# Altium integrated library NXP_60_26022015.IntLib: 1306 symbols (part 23 of 28)
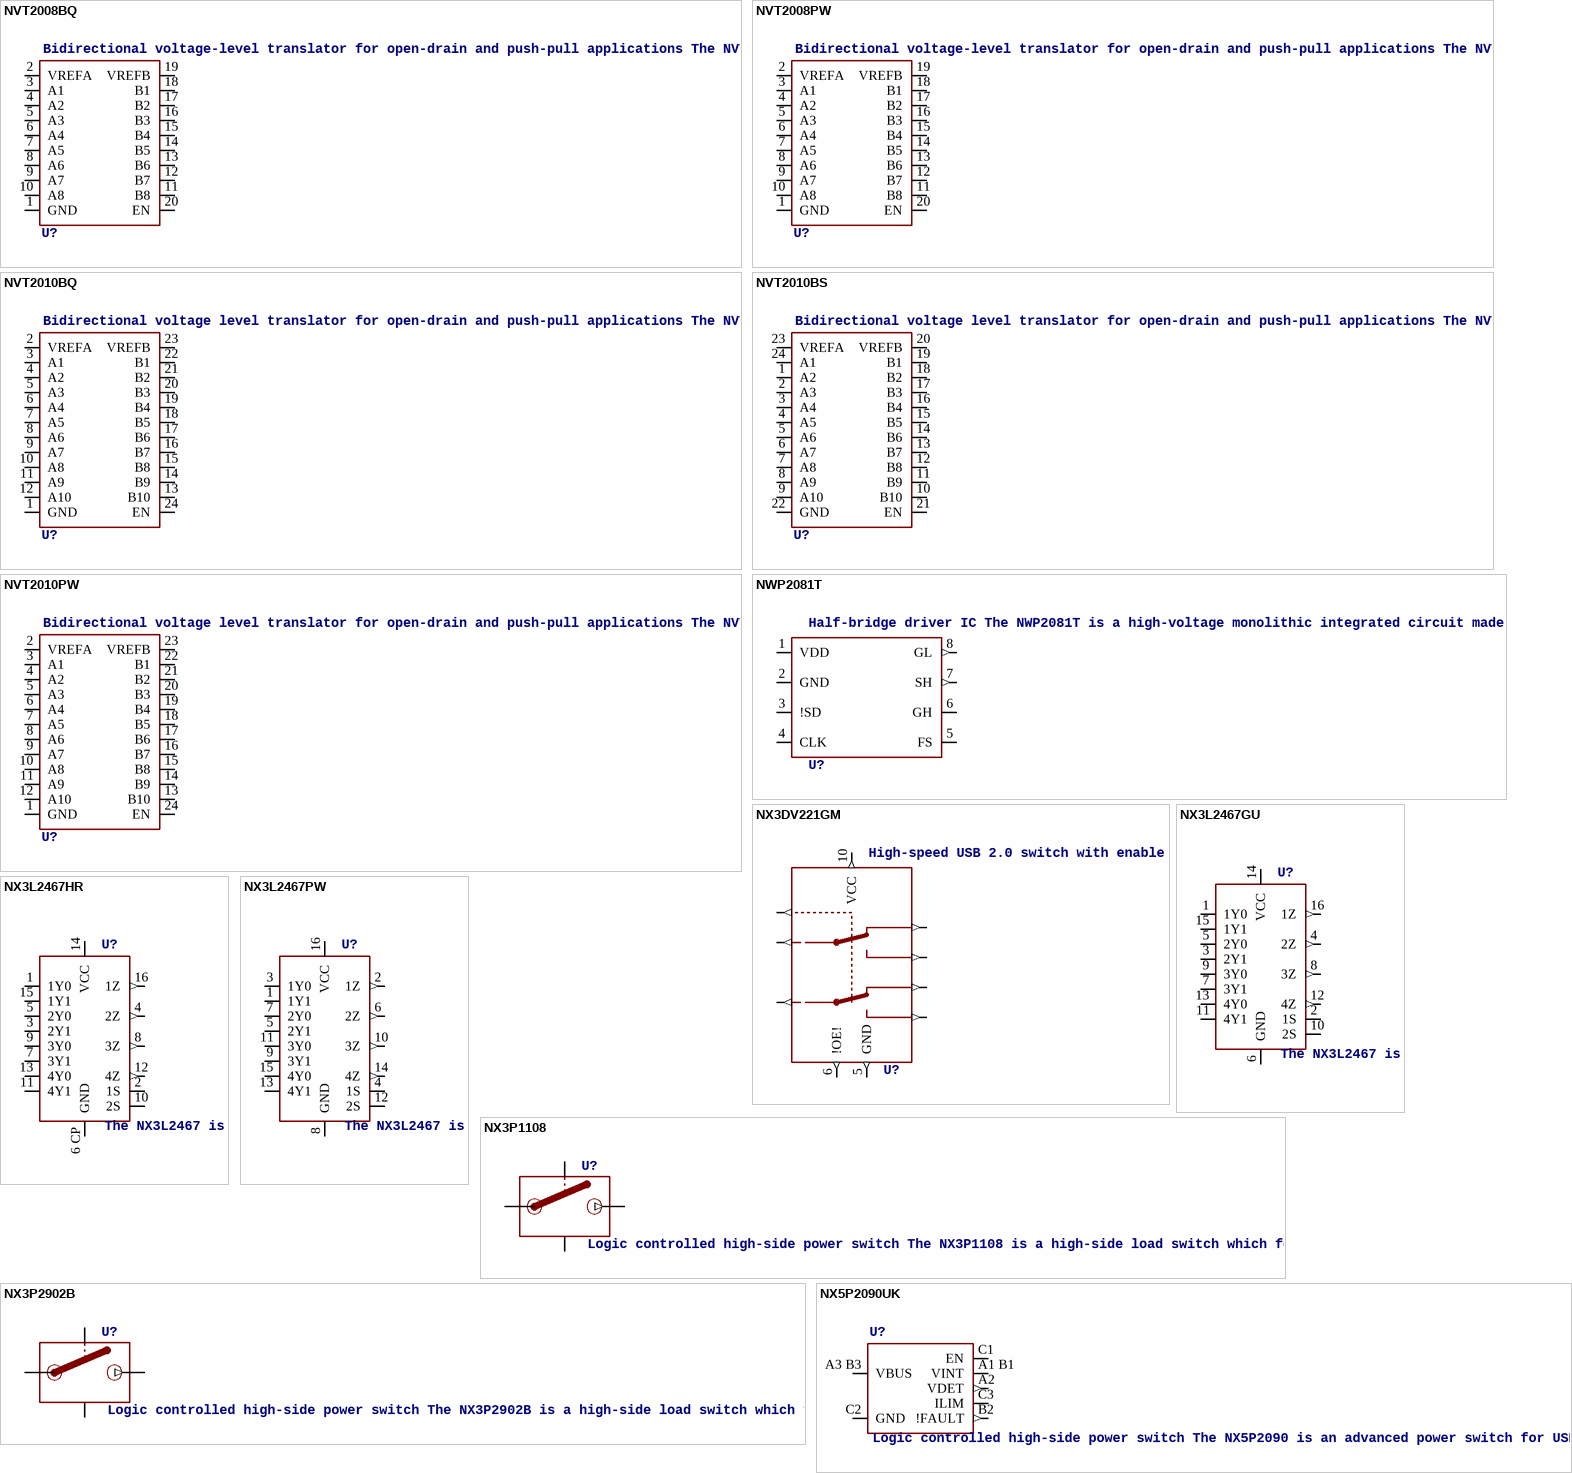
[diagram p207: symbols NVT2008BQ to NX5P2090UK]

## NVT2008PW
designator U?, comment Bidirectional voltage-level translator for open-drain and push-pull applications The NVT2008/NVT2010 are bidirectional voltage level translators operational from 1.0 V to 3.6 V (Vref(A)) and 1.8 V to 5.5 V (Vref(B)), which allow bidirectional voltage translations between 1.0 V and 5 V without the need for a direction pin in open-drain or push-pull applications. Bit widths of 8-bit to 10-bit are offered for level translation application with transmission speeds up to 33 MHz for an open-drain system with a 50 pF capacitance and a pull-up of 197 . When the An or Bn port is LOW, the clamp is in the ON-state and a low resistance connection exists between the An and Bn ports. The low ON-state resistance (Ron) of the switch allows connections to be made with minimal propagation delay. Assuming the higher voltage is on the Bn port when the Bn port is HIGH, the voltage on the An port is limited to the voltage set by VREFA. When the An port is HIGH, the Bn port is pulled to the drain pull-up supply voltage (Vpu(D)) by the pull-up resistors. This functionality allows a seamless translation between higher and lower voltages selected by the user without the need for directional control. When EN is HIGH, the translator switch is on, and the An I/O are connected to the Bn I/O, respectively, allowing bidirectional data flow between ports. When EN is LOW, the translator switch is off, and a high-impedance state exists between ports. The EN input circuit is designed to be supplied by Vref(B). To ensure the high-impedance state during power-up or power-down, EN must be LOW. All channels have the same electrical characteristics and there is minimal deviation from one output to another in voltage or propagation delay. This is a benefit over discrete transistor voltage translation solutions, since the fabrication of the switch is symmetrical. The translator provides excellent ESD protection to lower voltage devices, and at the same time protects less ESD-resistant devices.    AAL Eindhoven MK
footprint SOT360
pins: 1 GND (power), 2 VREFA (power), 3 A1, 4 A2, 5 A3, 6 A4, 7 A5, 8 A6, 9 A7, 10 A8, 11 B8, 12 B7, 13 B6, 14 B5, 15 B4, 16 B3, 17 B2, 18 B1, 19 VREFB (power), 20 EN

## NVT2010BQ
designator U?, comment Bidirectional voltage level translator for open-drain and push-pull applications The NVT2001/02 are bidirectional voltage level translators operational from 1.0 V to 3.6 V (Vref(A)) and 1.8 V to 5.5 V (Vref(B)), which allow bidirectional voltage translations between 1.0 V and 5 V without the need for a direction pin in open-drain or push-pull applications. Bit widths ranging from 1-bit or 2-bit are offered for level translation application with transmission speeds up to 33 MHz for an open-drain system with a 50 pF capacitance and a pull-up of 197 . When the An or Bn port is LOW, the clamp is in the ON-state and a low resistance connection exists between the An and Bn ports. The low ON-state resistance (Ron) of the switch allows connections to be made with minimal propagation delay. Assuming the higher voltage is on the Bn port when the Bn port is HIGH, the voltage on the An port is limited to the voltage set by VREFA. When the An port is HIGH, the Bn port is pulled to the drain pull-up supply voltage (Vpu(D)) by the pull-up resistors. This functionality allows a seamless translation between higher and lower voltages selected by the user without the need for directional control. When EN is HIGH, the translator switch is on, and the An I/O are connected to the Bn I/O, respectively, allowing bidirectional data flow between ports. When EN is LOW, the translator switch is off, and a high-impedance state exists between ports. The EN input circuit is designed to be supplied by Vref(B). To ensure the high-impedance state during power-up or power-down, EN must be LOW. All channels have the same electrical characteristics and there is minimal deviation from one output to another in voltage or propagation delay. This is a benefit over discrete transistor voltage translation solutions, since the fabrication of the switch is symmetrical. The translator provides excellent ESD protection to lower voltage devices, and at the same time protects less ESD-resistant devices    AAL Eindhoven MK
footprint SOT815-1
pins: 1 GND (power), 2 VREFA (power), 3 A1, 4 A2, 5 A3, 6 A4, 7 A5, 8 A6, 9 A7, 10 A8, 11 A9, 12 A10, 13 B10, 14 B9, 15 B8, 16 B7, 17 B6, 18 B5, 19 B4, 20 B3, 21 B2, 22 B1, 23 VREFB (power), 24 EN

## NVT2010BS
designator U?, comment Bidirectional voltage level translator for open-drain and push-pull applications The NVT2001/02 are bidirectional voltage level translators operational from 1.0 V to 3.6 V (Vref(A)) and 1.8 V to 5.5 V (Vref(B)), which allow bidirectional voltage translations between 1.0 V and 5 V without the need for a direction pin in open-drain or push-pull applications. Bit widths ranging from 1-bit or 2-bit are offered for level translation application with transmission speeds up to 33 MHz for an open-drain system with a 50 pF capacitance and a pull-up of 197 . When the An or Bn port is LOW, the clamp is in the ON-state and a low resistance connection exists between the An and Bn ports. The low ON-state resistance (Ron) of the switch allows connections to be made with minimal propagation delay. Assuming the higher voltage is on the Bn port when the Bn port is HIGH, the voltage on the An port is limited to the voltage set by VREFA. When the An port is HIGH, the Bn port is pulled to the drain pull-up supply voltage (Vpu(D)) by the pull-up resistors. This functionality allows a seamless translation between higher and lower voltages selected by the user without the need for directional control. When EN is HIGH, the translator switch is on, and the An I/O are connected to the Bn I/O, respectively, allowing bidirectional data flow between ports. When EN is LOW, the translator switch is off, and a high-impedance state exists between ports. The EN input circuit is designed to be supplied by Vref(B). To ensure the high-impedance state during power-up or power-down, EN must be LOW. All channels have the same electrical characteristics and there is minimal deviation from one output to another in voltage or propagation delay. This is a benefit over discrete transistor voltage translation solutions, since the fabrication of the switch is symmetrical. The translator provides excellent ESD protection to lower voltage devices, and at the same time protects less ESD-resistant devices    AAL Eindhoven MK
footprint SOT616-1
pins: 1 A2, 2 A3, 3 A4, 4 A5, 5 A6, 6 A7, 7 A8, 8 A9, 9 A10, 10 B10, 11 B9, 12 B8, 13 B7, 14 B6, 15 B5, 16 B4, 17 B3, 18 B2, 19 B1, 20 VREFB (power), 21 EN, 22 GND (power), 23 VREFA (power), 24 A1

## NVT2010PW
designator U?, comment Bidirectional voltage level translator for open-drain and push-pull applications The NVT2001/02 are bidirectional voltage level translators operational from 1.0 V to 3.6 V (Vref(A)) and 1.8 V to 5.5 V (Vref(B)), which allow bidirectional voltage translations between 1.0 V and 5 V without the need for a direction pin in open-drain or push-pull applications. Bit widths ranging from 1-bit or 2-bit are offered for level translation application with transmission speeds up to 33 MHz for an open-drain system with a 50 pF capacitance and a pull-up of 197 . When the An or Bn port is LOW, the clamp is in the ON-state and a low resistance connection exists between the An and Bn ports. The low ON-state resistance (Ron) of the switch allows connections to be made with minimal propagation delay. Assuming the higher voltage is on the Bn port when the Bn port is HIGH, the voltage on the An port is limited to the voltage set by VREFA. When the An port is HIGH, the Bn port is pulled to the drain pull-up supply voltage (Vpu(D)) by the pull-up resistors. This functionality allows a seamless translation between higher and lower voltages selected by the user without the need for directional control. When EN is HIGH, the translator switch is on, and the An I/O are connected to the Bn I/O, respectively, allowing bidirectional data flow between ports. When EN is LOW, the translator switch is off, and a high-impedance state exists between ports. The EN input circuit is designed to be supplied by Vref(B). To ensure the high-impedance state during power-up or power-down, EN must be LOW. All channels have the same electrical characteristics and there is minimal deviation from one output to another in voltage or propagation delay. This is a benefit over discrete transistor voltage translation solutions, since the fabrication of the switch is symmetrical. The translator provides excellent ESD protection to lower voltage devices, and at the same time protects less ESD-resistant devices    AAL Eindhoven MK
footprint SOT355-1
pins: 1 GND (power), 2 VREFA (power), 3 A1, 4 A2, 5 A3, 6 A4, 7 A5, 8 A6, 9 A7, 10 A8, 11 A9, 12 A10, 13 B10, 14 B9, 15 B8, 16 B7, 17 B6, 18 B5, 19 B4, 20 B3, 21 B2, 22 B1, 23 VREFB (power), 24 EN

## NWP2081T
designator U?, comment Half-bridge driver IC The NWP2081T is a high-voltage monolithic integrated circuit made using the latch-up free Silicon-On-Insulator (SOI) process. The circuit is designed for driving MOSFETs in a half-bridge configuration.    AAL Eindhoven MK
footprint SOT96-1
pins: 1 VDD (power), 2 GND (power), 3 !SD, 4 CLK, 5 FS, 6 GH, 7 SH (out), 8 GL (out)

## NX3DV221GM
designator U?, comment High-speed USB 2.0 switch with enable
footprint SOT1049
pins: 1 1D+ (out), 2 1D- (out), 3 2D+ (out), 4 2D- (out), 5 GND (out), 6 !OE! (out), 7 D- (out), 8 D+ (out), 9 S (out), 10 VCC (out)

## NX3L2467GU
designator U?, comment The NX3L2467 is a dual low-ohmic double-pole double-throw analog switch suitable for use as an analog or digital multiplexer/demultiplexer. It consists of four switches, each with two independent input/outputs (nY0 and nY1) and a common input/output (nZ). The two digital inputs (1S and 2S) are used to select the switch position. 1S is used in selecting the independent inputs/outputs switched to 1Z and 2Z, and 2S is used in selecting the independent inputs/outputs switched to 3Z and 4Z.  Schmitt trigger action at the select input (nS) makes the circuit tolerant to slower input rise and fall times across the entire VCC range from 1.4 V to 4.3 V.   AAL Eindhoven MK
footprint SOT1161-1
pins: 1 1Y0, 2 1S, 3 2Y1, 4 2Z (out), 5 2Y0, 6 GND (power), 7 3Y1, 8 3Z (out), 9 3Y0, 10 2S, 11 4Y1, 12 4Z (out), 13 4Y0, 14 VCC (power), 15 1Y1, 16 1Z (out)

## NX3L2467HR
designator U?, comment The NX3L2467 is a dual low-ohmic double-pole double-throw analog switch suitable for use as an analog or digital multiplexer/demultiplexer. It consists of four switches, each with two independent input/outputs (nY0 and nY1) and a common input/output (nZ). The two digital inputs (1S and 2S) are used to select the switch position. 1S is used in selecting the independent inputs/outputs switched to 1Z and 2Z, and 2S is used in selecting the independent inputs/outputs switched to 3Z and 4Z.  Schmitt trigger action at the select input (nS) makes the circuit tolerant to slower input rise and fall times across the entire VCC range from 1.4 V to 4.3 V.   AAL Eindhoven MK
footprint SOT1039-2
pins: 1 1Y0, 2 1S, 3 2Y1, 4 2Z (out), 5 2Y0, 6 CP GND (power), 7 3Y1, 8 3Z (out), 9 3Y0, 10 2S, 11 4Y1, 12 4Z (out), 13 4Y0, 14 VCC (power), 15 1Y1, 16 1Z (out)

## NX3L2467PW
designator U?, comment The NX3L2467 is a dual low-ohmic double-pole double-throw analog switch suitable for use as an analog or digital multiplexer/demultiplexer. It consists of four switches, each with two independent input/outputs (nY0 and nY1) and a common input/output (nZ). The two digital inputs (1S and 2S) are used to select the switch position. 1S is used in selecting the independent inputs/outputs switched to 1Z and 2Z, and 2S is used in selecting the independent inputs/outputs switched to 3Z and 4Z.  Schmitt trigger action at the select input (nS) makes the circuit tolerant to slower input rise and fall times across the entire VCC range from 1.4 V to 4.3 V.   AAL Eindhoven MK
footprint SOT403-1
pins: 1 1Y1, 2 1Z (out), 3 1Y0, 4 1S, 5 2Y1, 6 2Z (out), 7 2Y0, 8 GND (power), 9 3Y1, 10 3Z (out), 11 3Y0, 12 2S, 13 4Y1, 14 4Z (out), 15 4Y0, 16 VCC (power)

## NX3P1108
designator U?, comment Logic controlled high-side power switch The NX3P1108 is a high-side load switch which features a low ON resistance P-channel MOSFET that supports more than 1.5 A of continuous current. It has an integrated output discharge resistor to discharge the output capacitance when disabled. Designed for operation from 0.9 V to 3.6 V, it is used in power domain isolation applications to reduce power dissipation and extend battery life. The enable logic includes integrated logic level translation making the device compatible with lower voltage processors and controllers. The NX3P1108 is ideal for portable, battery operated applications due to low ground current and ultra-low OFF-state current.    AAL Eindhoven MK
footprint WLCSP4
pins: A1 VOUT (out), A2 VIN, B1 GND (power), B2 EN

## NX3P2902B
designator U?, comment Logic controlled high-side power switch The NX3P2902B is a high-side load switch which features a low ON resistance P-channel MOSFET. The MOSFET supports more than 500 mA of continuous current and an integrated output discharge resistor to discharge the output capacitance when disabled. Designed for operation from 1.1 V to 3.6 V, it is used in power domain isolation applications to reduce power dissipation and extend battery life. The enable logic includes integrated logic level translation making the device compatible with lower voltage processors and controllers. The NX3P2902B is ideal for portable, battery operated applications due to low ground current and OFF-state current.    AAL Eindhoven MK
footprint WLCSP4
pins: A1 VOUT (out), A2 VIN, B1 GND (power), B2 EN

## NX5P2090UK
designator U?, comment Logic controlled high-side power switch The NX5P2090 is an advanced power switch for USB OTG applications. It includes under-voltage and over-voltage lockout, over-current, over-temperature, reverse bias and in-rush current protection circuits. These are designed to automatically isolate a VBUS OTG voltage source from a VBUS interface pin when a fault occurs. The device features two power switch terminals, one input (VINT) and one output (VBUS); a current limit input (ILIM) for defining the over-current and in-rush current limit; a voltage detect output (VDET) to monitor the voltage level on VBUS; an open-drain fault output (FAULT) to indicate when a fault condition has occurred and an enable input (EN) to control the state of the switch. When EN is set LOW the device enters a low-power mode, disabling all protection circuits accept the under-voltage lockout. The low-power mode can be entered at anytime unless the over temperature protection circuit has been triggered. Designed for operation from 3 V to 5.5 V, it is used in power domain isolation applications to protect from out of range operation. The enable input includes integrated logic level translation making the device compatible with lower voltage processors and controllers    AAL Eindhoven MK
footprint WLCSP9
pins: A1 B1 VINT (power), A2 VDET (out), A3 B3 VBUS (power), B2 !FAULT (out), C1 EN, C2 GND (power), C3 ILIM

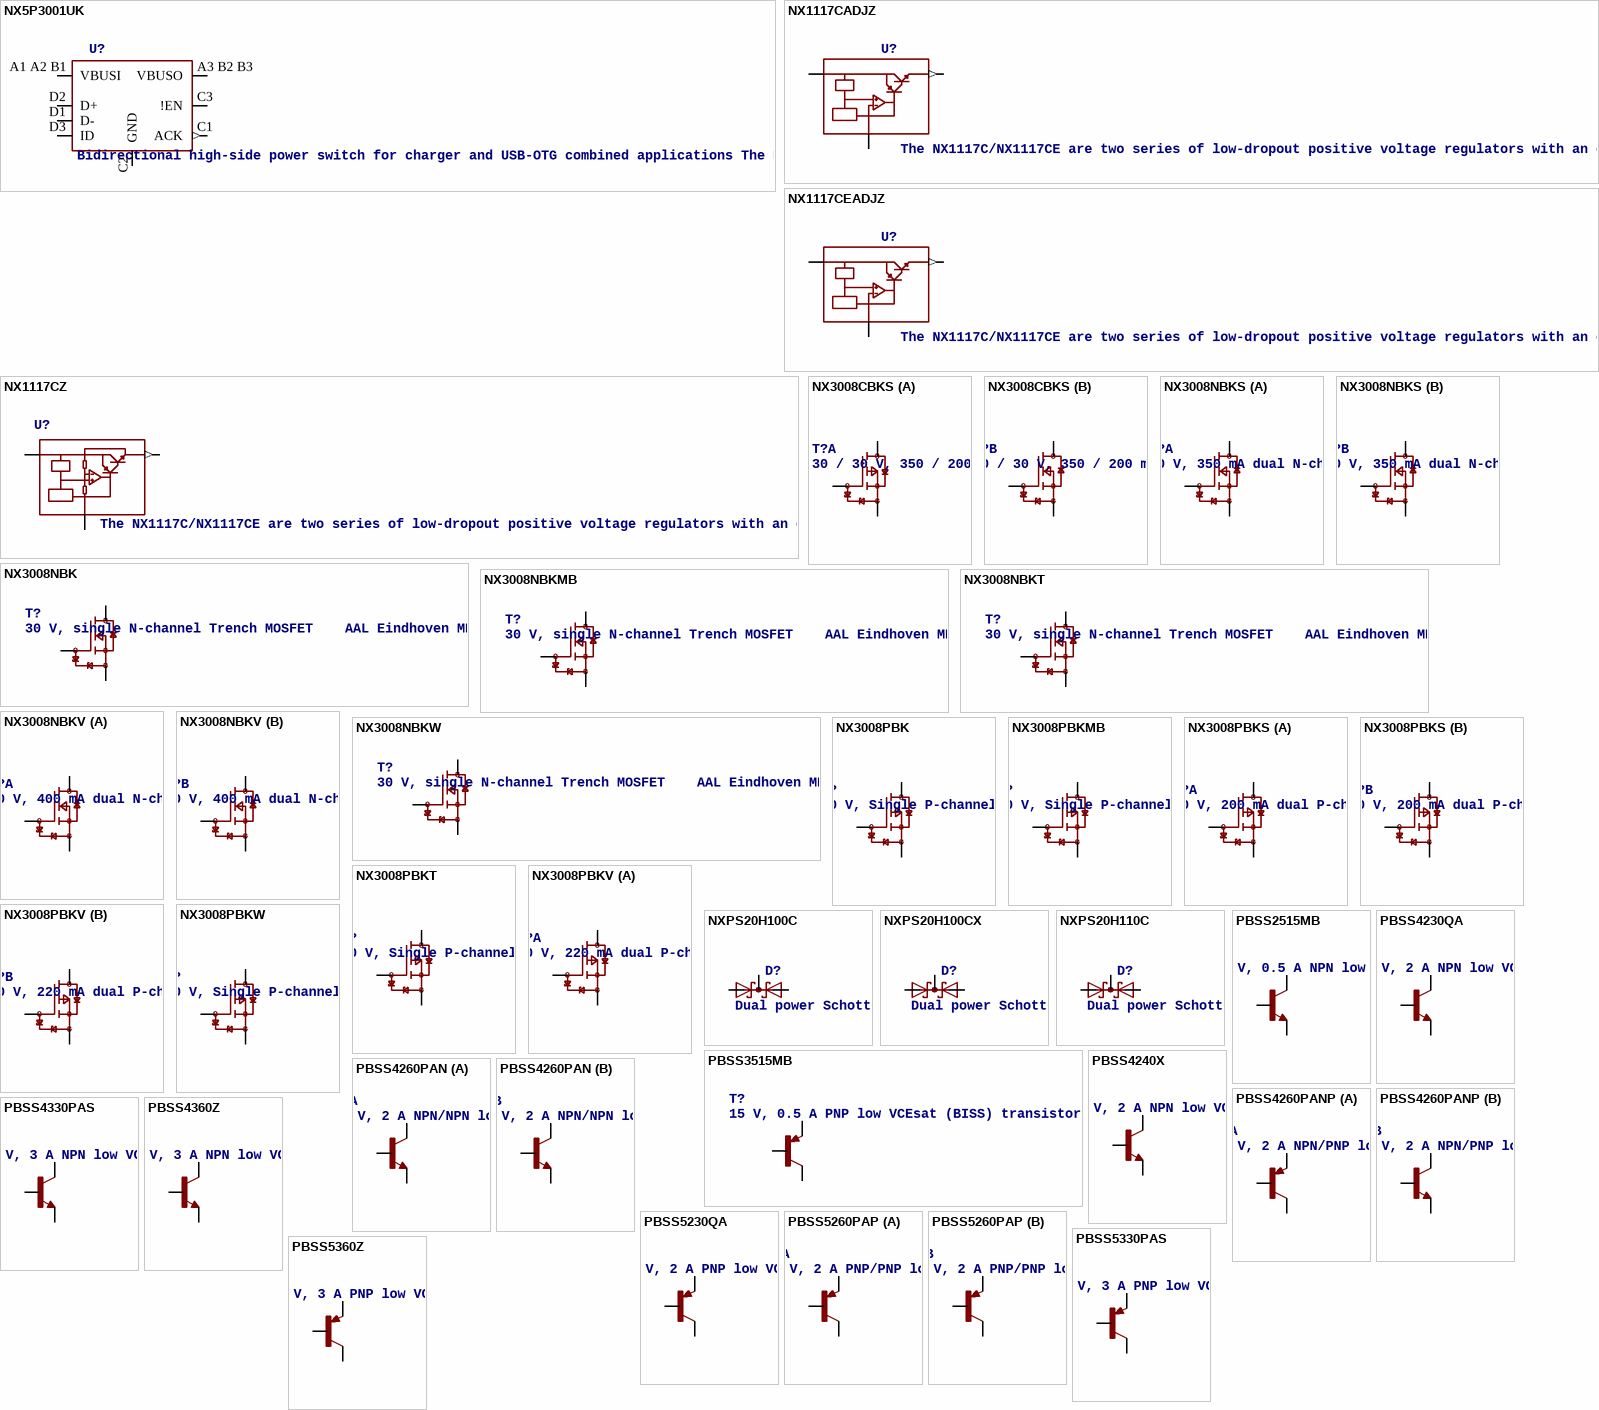
[diagram p156: symbols NX5P3001UK to PBSS5360Z]

## NX5P3001UK
designator U?, comment Bidirectional high-side power switch for charger and USB-OTG combined applications The NX5P3001 is an advanced bidirectional power switch and ESD-protection device for combined USB-OTG and charger port applications. It includes undervoltage lockout, overvoltage lockout and overtemperature protection circuits designed to automatically isolate the power switch terminals when a fault condition occurs. The device features two power switch input/output terminals (VBUSI and VBUSO), an open-drain acknowledge output (ACK), an enable input which includes logic level translation (EN) and low capacitance Transient Voltage Suppression (TVS) type ESD-clamps for USB data and ID pins. When EN is set HIGH the device enters a low-power mode, disabling all protection circuits. When used in combined charger and USB-OTG applications the 30 V tolerant VBUSI switch terminal is used as the supply and switch input when charging, for USB-OTG the VBUSO switch terminal is used as the supply and switch input. Designed for operation from 3.2 V to 6.35 V, it is used in battery charging and power domain isolation applications to reduce power dissipation and extend battery life.    AAL Eindhoven MK
footprint WLCSP12
pins: A1 A2 B1 VBUSI (power), A3 B2 B3 VBUSO (power), C1 ACK (out), C2 GND (power), C3 !EN, D1 D-, D2 D+, D3 ID

## NX1117CADJZ
designator U?, comment The NX1117C/NX1117CE are two series of low-dropout positive voltage regulators with an output current capability of 1 A.   AAL Eindhoven MK
footprint SOT223
pins: 1 ADJ, 2 4 VOUT (out), 3 VIN

## NX1117CEADJZ
designator U?, comment The NX1117C/NX1117CE are two series of low-dropout positive voltage regulators with an output current capability of 1 A.   AAL Eindhoven MK
footprint SOT223
pins: 1 ADJ, 2 4 VOUT (out), 3 VIN

## NX1117CZ
designator U?, comment The NX1117C/NX1117CE are two series of low-dropout positive voltage regulators with an output current capability of 1 A.   AAL Eindhoven MK
TOLERANCE: 1.25%; VOLTAGE: 5.0V; 12NC: 9352 914 35115; 12NC: 9352 914 42115; 12NC: 9352 914 43115
footprint SOT223
pins: 1 GND, 2 4 VOUT (out), 3 VIN

## NX3008CBKS
designator T?, comment 30 / 30 V, 350 / 200 mA N/P-channel Trench MOSFET Complementary N/P-channel enhancement mode Field-Effect Transistor (FET) in very small SOT363 (SC-88) Surface-Mounted Device (SMD) plastic package using Trench MOSFET technology    AAL Eindhoven MK
footprint SOT363
part A pins: 3 D, 4 S, 5 G
part B pins: 1 S, 2 G, 6 D

## NX3008NBK
designator T?, comment 30 V, single N-channel Trench MOSFET    AAL Eindhoven MK
footprint SOT23
pins: 1 G, 2 S, 3 D

## NX3008NBKMB
designator T?, comment 30 V, single N-channel Trench MOSFET    AAL Eindhoven MK
footprint SOT883(B)
pins: 1 G, 2 S, 3 D

## NX3008NBKS
designator T?, comment 30 V, 350 mA dual N-channel Trench MOSFET Dual N-channel enhancement mode Field-Effect Transistor (FET) in a very small SOT363 (SC-88) Surface-Mounted Device (SMD) plastic package using Trench MOSFET technology.    AAL Eindhoven MK
footprint SOT363
part A pins: 1 S, 2 G, 6 D
part B pins: 3 D, 4 S, 5 G

## NX3008NBKT
designator T?, comment 30 V, single N-channel Trench MOSFET    AAL Eindhoven MK
footprint SOT416
pins: 1 G, 2 S, 3 D

## NX3008NBKV
designator T?, comment 30 V, 400 mA dual N-channel Trench MOSFET Dual N-channel enhancement mode Field-Effect Transistor (FET) in an ultra small and flat lead SOT666 Surface-Mounted Device (SMD) plastic package using Trench MOSFET technology.    AAL Eindhoven MK
footprint SOT666
part A pins: 1 S, 2 G, 6 D
part B pins: 3 D, 4 S, 5 G

## NX3008NBKW
designator T?, comment 30 V, single N-channel Trench MOSFET    AAL Eindhoven MK
footprint SOT323
pins: 1 G, 2 S, 3 D

## NX3008PBK
designator T?, comment 30 V, Single P-channel Trench MOSFET P-channel enhancement mode Field-Effect Transistor (FET) in a Surface-Mounted Device (SMD) plastic package using Trench MOSFET technology   AAL Eindhoven MK
footprint SOT23
pins: 1 G, 2 S, 3 D

## NX3008PBKMB
designator T?, comment 30 V, Single P-channel Trench MOSFET P-channel enhancement mode Field-Effect Transistor (FET) in a Surface-Mounted Device (SMD) plastic package using Trench MOSFET technology   AAL Eindhoven MK
footprint SOT883(B)
pins: 1 G, 2 S, 3 D

## NX3008PBKS
designator T?, comment 30 V, 200 mA dual P-channel Trench MOSFET Dual P-channel enhancement mode Field-Effect Transistor (FET) in a very small SOT363 (SC-88) Surface-Mounted Device (SMD) plastic package using Trench MOSFET technology.   AAL Eindhoven MK
footprint SOT363
part A pins: 1 S, 2 G, 6 D
part B pins: 3 D, 4 S, 5 G

## NX3008PBKT
designator T?, comment 30 V, Single P-channel Trench MOSFET P-channel enhancement mode Field-Effect Transistor (FET) in a Surface-Mounted Device (SMD) plastic package using Trench MOSFET technology   AAL Eindhoven MK
footprint SOT416
pins: 1 G, 2 S, 3 D

## NX3008PBKV
designator T?, comment 30 V, 220 mA dual P-channel Trench MOSFET Dual P-channel enhancement mode Field-Effect Transistor (FET) in an ultra small and flat lead SOT666 Surface-Mounted Device (SMD) plastic package using Trench MOSFET technology.   AAL Eindhoven MK
footprint SOT666
part A pins: 1 S, 2 G, 6 D
part B pins: 3 D, 4 S, 5 G

## NX3008PBKW
designator T?, comment 30 V, Single P-channel Trench MOSFET P-channel enhancement mode Field-Effect Transistor (FET) in a Surface-Mounted Device (SMD) plastic package using Trench MOSFET technology   AAL Eindhoven MK
footprint SOT323
pins: 1 G, 2 S, 3 D

## NXPS20H100C
designator D?, comment Dual power Schottky diode Dual common cathode power Schottky diode designed for high frequency switched mode power supplies in a SOT78 (TO-220AB) plastic package.   AAL Eindhoven MK
ISOLATED: NO
footprint SOT78
pins: 1 A1, 2 K1K2, 3 A2

## NXPS20H100CX
designator D?, comment Dual power Schottky diode Dual common cathode power Schottky diode designed for high frequency switched mode power supplies in a SOT78 (TO-220AB) plastic package.   AAL Eindhoven MK
ISOLATED: YES
footprint SOT186A
pins: 1 A1, 2 K1K2, 3 A2

## NXPS20H110C
designator D?, comment Dual power Schottky diode Dual common cathode power Schottky diode designed for high frequency switched mode power supplies in a SOT78 (TO-220AB) plastic package.   AAL Eindhoven MK
ISOLATED: NO
footprint SOT78
pins: 1 A1, 2 K1K2, 3 A2

## PBSS2515MB
designator T?, comment 15 V, 0.5 A NPN low VCEsat (BISS) transistor   AAL Eindhoven MK
footprint SOT883(B)
pins: 1 B, 2 E, 3 C

## PBSS3515MB
designator T?, comment 15 V, 0.5 A PNP low VCEsat (BISS) transistor
footprint SOT883(B)
pins: 1 B, 2 E, 3 C

## PBSS4230QA
designator T?, comment 30 V, 2 A NPN low VCEsat (BISS) transistor NPN low VCEsat Breakthrough In Small Signal (BISS) transistor in a leadless ultra small DFN1010D-3 (SOT1215) Surface-Mounted Device (SMD) plastic package with visible and solderable side pads. PNP complement: PBSS5230QA.    AAL Eindhoven MK
footprint SOT1215
pins: 1 B, 2 E, 3 C

## PBSS4240X
designator T?, comment 40 V, 2 A NPN low VCEsat (BISS) transistor NPN low VCEsat  Breakthrough In Small Signal (BISS) transistor in a medium power and flat lead SOT89 Surface-Mounted Device (SMD) plastic package. PNP complement: PBSS5240X.    AAL Eindhoven MK
footprint SOT89
pins: 1 E, 2 C, 3 B

## PBSS4260PAN
designator T?, comment 60 V, 2 A NPN/NPN low VCEsat (BISS) transistor NPN/NPN low VCEsat  Breakthrough In Small Signal (BISS) transistor in a leadless medium power DFN2020-6 (SOT1118) Surface-Mounted Device (SMD) plastic package. NPN/PNP complement: PBSS4260PANP. PNP/PNP complement: PBSS5260PAP.    AAL Eindhoven MK
footprint SOT1118
part A pins: 1 E, 2 B, 6 7 C
part B pins: 3 8 C, 4 E, 5 B

## PBSS4260PANP
designator T?, comment 60 V, 2 A NPN/PNP low VCEsat (BISS) transistor NPN/PNP low VCEsat  Breakthrough In Small Signal (BISS) transistor in a leadless medium power DFN2020-6 (SOT1118) Surface-Mounted Device (SMD) plastic package. NPN/NPN complement: PBSS4260PAN. PNP/PNP complement: PBSS5260PAP.    AAL Eindhoven MK
footprint SOT1118
part A pins: 3 8 C, 4 E, 5 B
part B pins: 1 E, 2 B, 6 7 C

## PBSS4330PAS
designator T?, comment 30 V, 3 A NPN low VCEsat (BISS) transistor NPN low VCEsat Breakthrough In Small Signal (BISS) transistor, encapsulated in an ultra thin DFN2020D-3 (SOT1061D) leadless small Surface-Mounted Device (SMD) plastic package with medium power capability and visible and soldarable side pads. PNP complement: PBSS5330PAS   AAL Eindhoven MK
footprint SOT1061D
pins: 1 B, 2 E, 3 C

## PBSS4360Z
designator T?, comment 60 V, 3 A NPN low VCEsat (BISS) transistor NPN low VCEsat Breakthrough In Small Signal (BISS) transistor in a medium power SOT223 (SC-73) Surface-Mounted Device (SMD) plastic package. PNP complement: PBSS5360Z.    AAL Eindhoven MK
footprint SOT223
pins: 1 B, 2 C, 3 4 E

## PBSS5230QA
designator T?, comment 30 V, 2 A PNP low VCEsat (BISS) transistor PNP low VCEsat Breakthrough In Small Signal (BISS) transistor in a leadless ultra small DFN1010D-3 (SOT1215) Surface-Mounted Device (SMD) plastic package with visible and solderable side pads. NPN complement: PBSS4230QA.    AAL Eindhoven MK
footprint SOT1215
pins: 1 B, 2 E, 3 C

## PBSS5260PAP
designator T?, comment 60 V, 2 A PNP/PNP low VCEsat (BISS) transistor PNP/PNP low VCEsat  Breakthrough In Small Signal (BISS) transistor in a leadless medium power DFN2020-6 (SOT1118) Surface-Mounted Device (SMD) plastic package. NPN/PNP complement: PBSS4260PANP. NPN/NPN complement: PBSS4260PAN.    AAL Eindhoven MK
footprint SOT1118
part A pins: 1 E, 2 B, 6 7 C
part B pins: 3 8 C, 4 E, 5 B

## PBSS5330PAS
designator T?, comment 30 V, 3 A PNP low VCEsat (BISS) transistor PNP low VCEsat Breakthrough In Small Signal (BISS) transistor, encapsulated in an ultra thin DFN2020D-3 (SOT1061D) leadless small Surface-Mounted Device (SMD) plastic package with medium power capability and visible and soldarable side pads. NPN complement: PBSS4330PAS    AAL Eindhoven MK
footprint SOT1061D
pins: 1 B, 2 E, 3 C

## PBSS5360Z
designator T?, comment 60 V, 3 A PNP low VCEsat (BISS) transistor PNP low VCEsat Breakthrough In Small Signal (BISS) transistor in a medium power SOT223 (SC-73) Surface-Mounted Device (SMD) plastic package. NPN complement: PBSS4360Z.    AAL Eindhoven MK
footprint SOT223
pins: 1 B, 2 4 C, 3 E

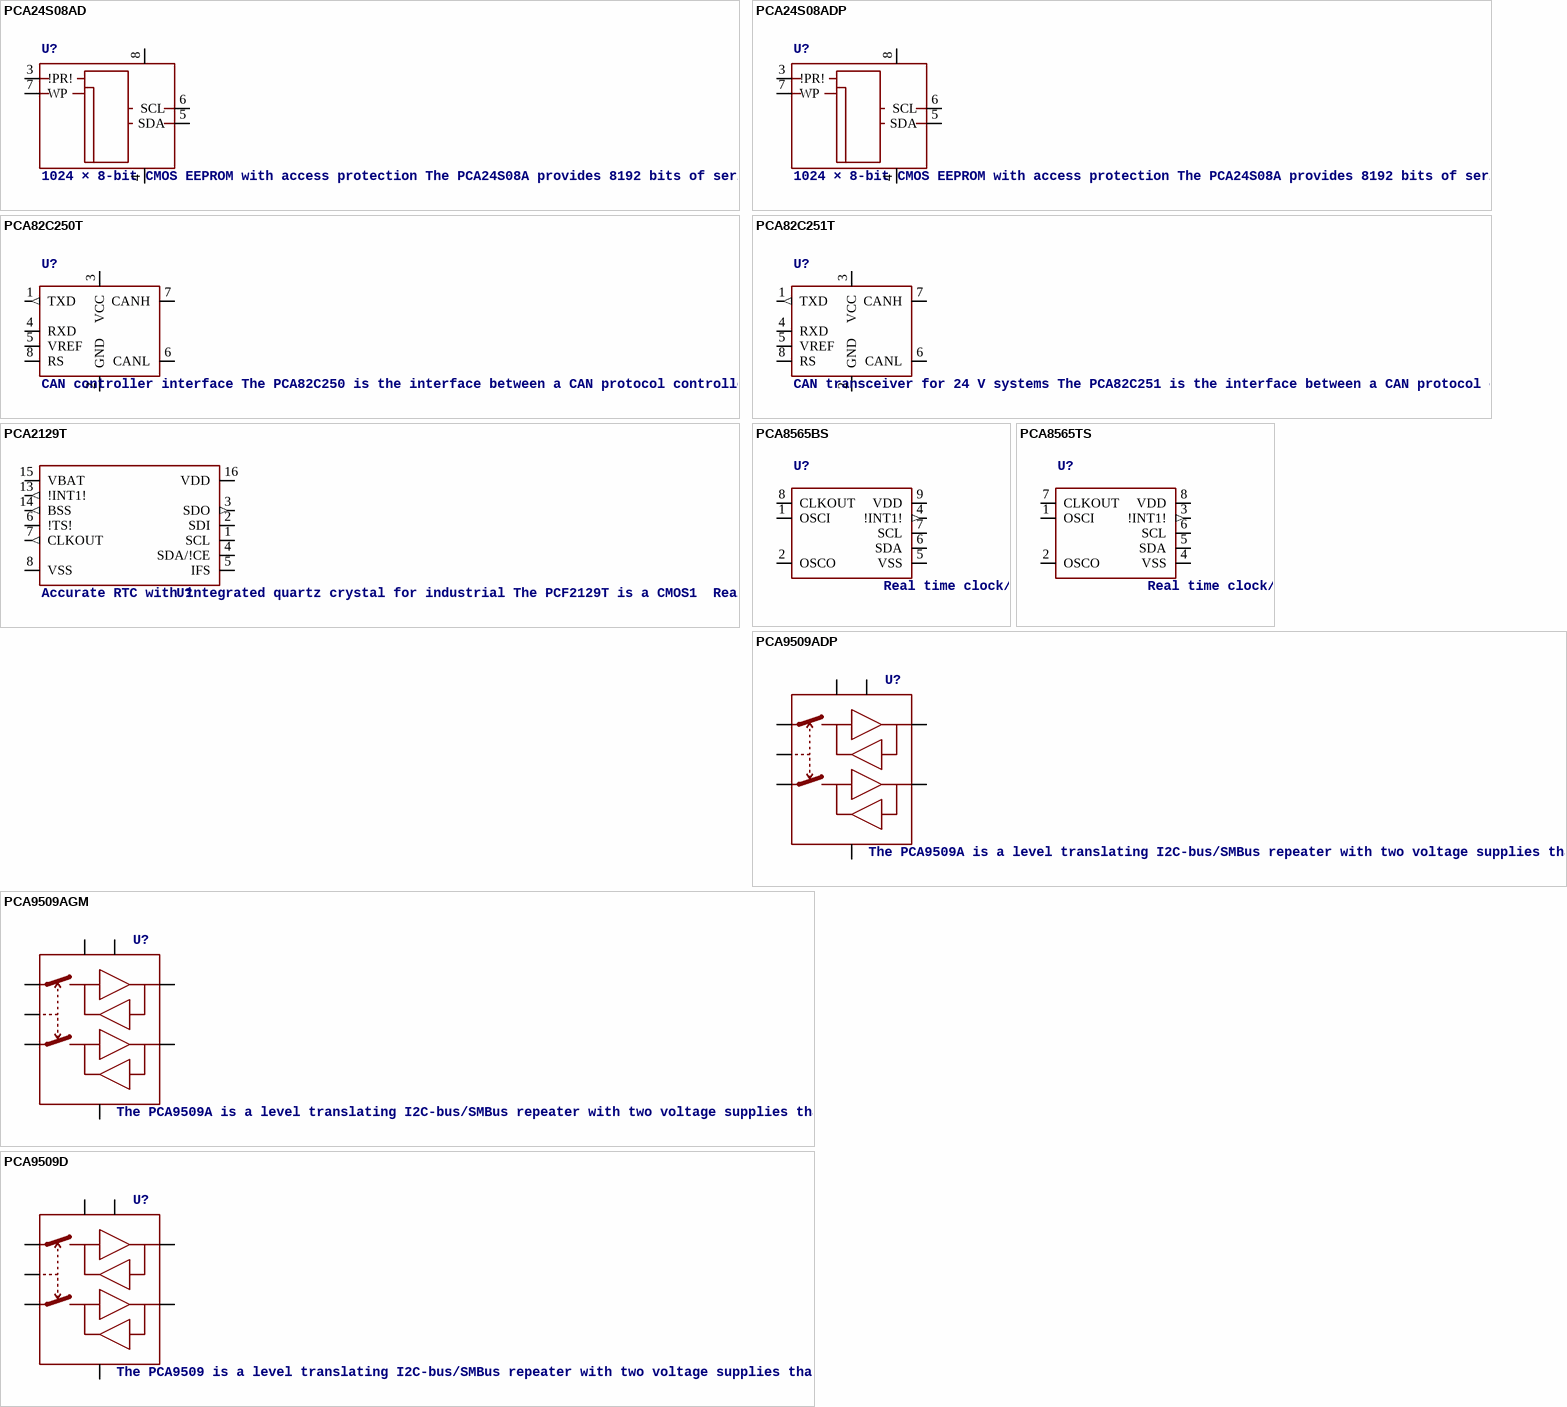
[diagram p157: symbols PCA24S08AD to PCA9509D]

## PCA24S08AD
designator U?, comment 1024 × 8-bit CMOS EEPROM with access protection The PCA24S08A provides 8192 bits of serial Electrically Erasable and Programmable Read-Only Memory (EEPROM) organized as 1024 words of 8 bits each. Data bytes are received and transmitted via the serial I2 C-bus. Access permissions limiting reads or writes are set via the I2 C-bus to isolate blocks of memory from improper access. The PCA24S08A is intended to be pin compatible with standard 24C08 serial EEPROM devices except for pins 1, 2, and 3, which are address pins in the standard part. Other exceptions to the PCA24S08A serial EEPROM data sheet are noted in Section 6.6. All bits are sent to or read from the device, most significant bit first, in a manner consistent with the 24C08 serial EEPROM. The bit fields in this document are correspondingly listed with the MSB on the left and the LSB on the right. The EEPROM memory is broken up into 8 blocks of 1 kbit (128 bytes) each. Within each block, the memory is physically organized in to 8 pages of 128 bits (16 bytes) each. In addition to these 8 kbits, there are two more 128-bit pages that are used to store the access protection and ID information. There are a total of 8448 bits of EEPROM memory available in the PCA24S08A. Access protection (both read and write) is organized on a block basis for block 1 through block 7 and on a page and a block basis for block 0. Protection information for these blocks and pages is stored in one of the additional pages of EEPROM memory that is addressed separately from the main data storage array. SeeSection 6.4 for more details. The ID value is located in the ID page of the EEPROM, the second of the additional 16 byte pages. Writes from the serial interface may include from one byte to 16 bytes at a time, depending on the protocol followed by the bus master. All page accesses must be properly aligned to the internal EEPROM page. The EEPROM memory offers an endurance of 100,000 write cycles per byte, with 10 year data retention. Writes to the EEPROM take less than 5 ms to complete. After manufacturing, all EEPROM bits will be set to a value of ‘1’.    AAL Eindhoven MK
footprint SOT96-1
pins: 3 !PR!, 4 GND (power), 5 SDA, 6 SCL, 7 WP, 8 VCC (power)

## PCA24S08ADP
designator U?, comment 1024 × 8-bit CMOS EEPROM with access protection The PCA24S08A provides 8192 bits of serial Electrically Erasable and Programmable Read-Only Memory (EEPROM) organized as 1024 words of 8 bits each. Data bytes are received and transmitted via the serial I2 C-bus. Access permissions limiting reads or writes are set via the I2 C-bus to isolate blocks of memory from improper access. The PCA24S08A is intended to be pin compatible with standard 24C08 serial EEPROM devices except for pins 1, 2, and 3, which are address pins in the standard part. Other exceptions to the PCA24S08A serial EEPROM data sheet are noted in Section 6.6. All bits are sent to or read from the device, most significant bit first, in a manner consistent with the 24C08 serial EEPROM. The bit fields in this document are correspondingly listed with the MSB on the left and the LSB on the right. The EEPROM memory is broken up into 8 blocks of 1 kbit (128 bytes) each. Within each block, the memory is physically organized in to 8 pages of 128 bits (16 bytes) each. In addition to these 8 kbits, there are two more 128-bit pages that are used to store the access protection and ID information. There are a total of 8448 bits of EEPROM memory available in the PCA24S08A. Access protection (both read and write) is organized on a block basis for block 1 through block 7 and on a page and a block basis for block 0. Protection information for these blocks and pages is stored in one of the additional pages of EEPROM memory that is addressed separately from the main data storage array. SeeSection 6.4 for more details. The ID value is located in the ID page of the EEPROM, the second of the additional 16 byte pages. Writes from the serial interface may include from one byte to 16 bytes at a time, depending on the protocol followed by the bus master. All page accesses must be properly aligned to the internal EEPROM page. The EEPROM memory offers an endurance of 100,000 write cycles per byte, with 10 year data retention. Writes to the EEPROM take less than 5 ms to complete. After manufacturing, all EEPROM bits will be set to a value of ‘1’.    AAL Eindhoven MK
footprint SOT505-1
pins: 3 !PR!, 4 GND (power), 5 SDA, 6 SCL, 7 WP, 8 VCC (power)

## PCA82C250T
designator U?, comment CAN controller interface The PCA82C250 is the interface between a CAN protocol controller and the physical bus. The device provides differential transmit capability to the bus and differential receive capability to the CAN controller.    AAL Eindhoven MK
footprint SOT96-1
pins: 1 TXD (out), 2 GND, 3 VCC, 4 RXD, 5 VREF (power), 6 CANL, 7 CANH, 8 RS

## PCA82C251T
designator U?, comment CAN transceiver for 24 V systems The PCA82C251 is the interface between a CAN protocol controller and the physical bus. The device provides differential transmit capability to the bus and differential receive capability to the CAN controller    AAL Eindhoven MK
footprint SOT96-1
pins: 1 TXD (out), 2 GND, 3 VCC, 4 RXD, 5 VREF (power), 6 CANL, 7 CANH, 8 RS

## PCA2129T
designator U?, comment Accurate RTC with integrated quartz crystal for industrial The PCF2129T is a CMOS1  Real Time Clock (RTC) and calendar with an integrated Temperature Compensated Crystal (Xtal) Oscillator (TCXO) and a 32.768 kHz quartz crystal optimized for very high accuracy and very low power consumption. The PCF2129T has a selectable I2C-bus or SPI-bus, a backup battery switch-over circuit, a programmable watchdog function, a timestamp function, and many other features.    AAL Eindhoven MK
TEMPERATURE_RANGE: -30 °C to +80 °C
footprint SOT162-1
pins: 1 SCL, 2 SDI, 3 SDO (out), 4 SDA/!CE, 5 IFS, 6 !TS!, 7 CLKOUT (out), 8 VSS (power), 13 !INT1! (out), 14 BSS (out), 15 VBAT (power), 16 VDD (power)

## PCA8565BS
designator U?, comment Real time clock/calendar The PCA8565 is a CMOS real time clock and calendar optimized for low power consumption. A programmable clock output, interrupt output and voltage-low detector are also provided. All address and data are transferred serially via a two-line bidirectional I2C-bus. Maximum bus speed is 400 kbit/s. The built-in word address register is incremented automatically after each written or read data byte. AEC-Q100 compliant (PCA8565TS) for automotive applications.    AAL Eindhoven MK
footprint SOT650
pins: 1 OSCI, 2 OSCO, 4 !INT1! (out), 5 VSS (power), 6 SDA, 7 SCL, 8 CLKOUT (power), 9 VDD (power)

## PCA8565TS
designator U?, comment Real time clock/calendar The PCA8565 is a CMOS real time clock and calendar optimized for low power consumption. A programmable clock output, interrupt output and voltage-low detector are also provided. All address and data are transferred serially via a two-line bidirectional I2C-bus. Maximum bus speed is 400 kbit/s. The built-in word address register is incremented automatically after each written or read data byte. AEC-Q100 compliant (PCA8565TS) for automotive applications.    AAL Eindhoven MK
footprint SOT505-1
pins: 1 OSCI, 2 OSCO, 3 !INT1! (out), 4 VSS (power), 5 SDA, 6 SCL, 7 CLKOUT (power), 8 VDD (power)

## PCA9509ADP
designator U?, comment The PCA9509A is a level translating I2C-bus/SMBus repeater with two voltage supplies that enables processor low voltage 2-wire serial bus to interface with standard I2C-bus or SMBus I/O.   AAL Eindhoven MK
footprint SOT505-1
pins: 1 VCC(A) (power), 2 A1, 3 A2, 4 GND (power), 5 EN, 6 B2, 7 B1, 8 VCC(B) (power)

## PCA9509AGM
designator U?, comment The PCA9509A is a level translating I2C-bus/SMBus repeater with two voltage supplies that enables processor low voltage 2-wire serial bus to interface with standard I2C-bus or SMBus I/O.   AAL Eindhoven MK
footprint SOT902-1/2/3
pins: 1 VCC(A) (power), 2 A1, 3 A2, 4 GND (power), 5 EN, 6 B2, 7 B1, 8 VCC(B) (power)

## PCA9509D
designator U?, comment The PCA9509 is a level translating I2C-bus/SMBus repeater with two voltage supplies that enables processor low voltage 2-wire serial bus to interface with standard I2C-bus or SMBus I/O.   AAL Eindhoven MK
footprint SOT96-1
pins: 1 VCC(A) (power), 2 A1, 3 A2, 4 GND (power), 5 EN, 6 B2, 7 B1, 8 VCC(B) (power)

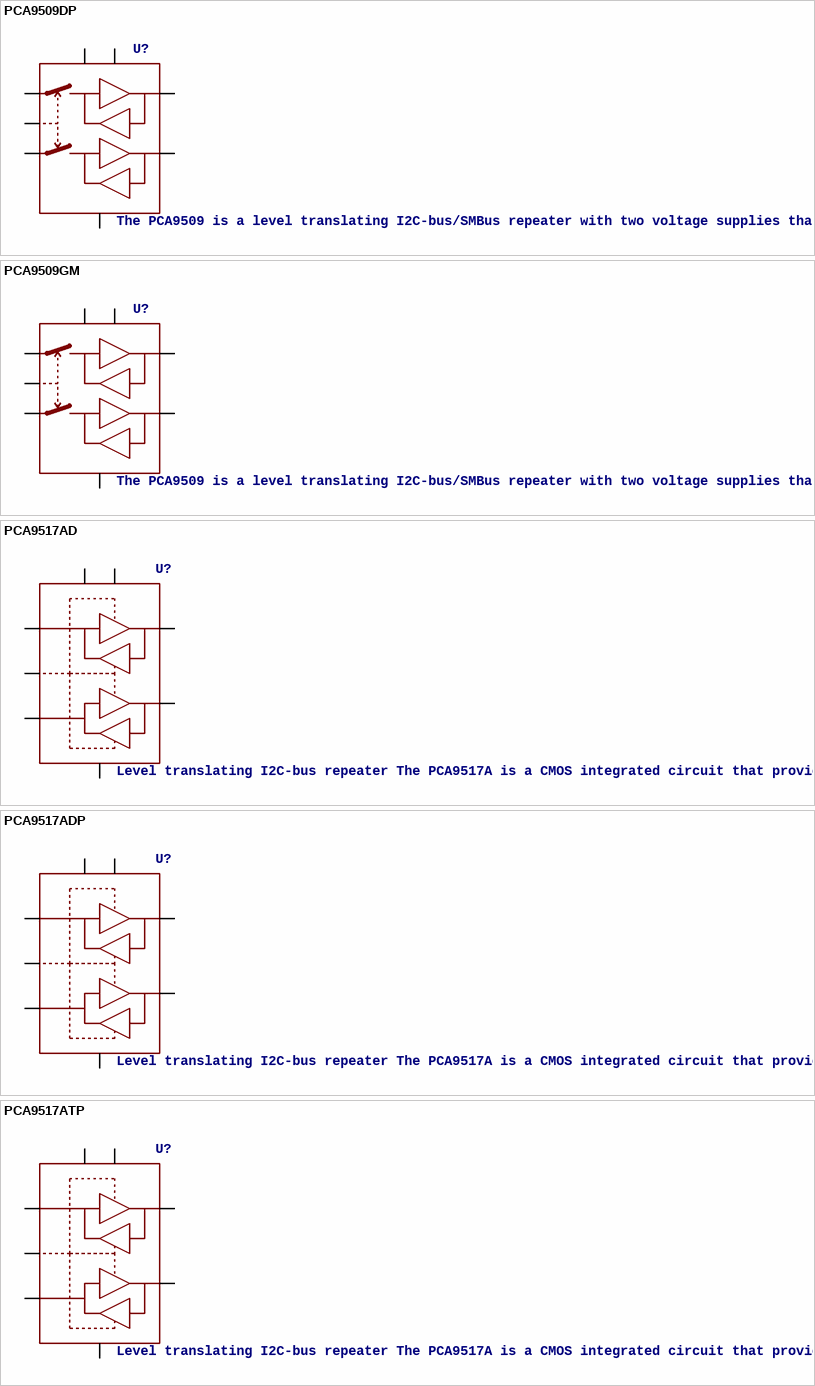
[diagram p158: symbols PCA9509DP to PCA9517ATP]

## PCA9509DP
designator U?, comment The PCA9509 is a level translating I2C-bus/SMBus repeater with two voltage supplies that enables processor low voltage 2-wire serial bus to interface with standard I2C-bus or SMBus I/O.   AAL Eindhoven MK
footprint SOT505-1
pins: 1 VCC(A) (power), 2 A1, 3 A2, 4 GND (power), 5 EN, 6 B2, 7 B1, 8 VCC(B) (power)

## PCA9509GM
designator U?, comment The PCA9509 is a level translating I2C-bus/SMBus repeater with two voltage supplies that enables processor low voltage 2-wire serial bus to interface with standard I2C-bus or SMBus I/O.   AAL Eindhoven MK
footprint SOT902-1/2/3
pins: 1 VCC(A) (power), 2 A1, 3 A2, 4 GND (power), 5 EN, 6 B2, 7 B1, 8 VCC(B) (power)

## PCA9517AD
designator U?, comment Level translating I2C-bus repeater The PCA9517A is a CMOS integrated circuit that provides level shifting between low voltage (down to 0.9 V) and higher voltage (2.7 V to 5.5 V) I2C-bus or SMBus applications. While retaining all the operating modes and features of the I2C-bus system during the level shifts, it also permits extension of the I2C-bus by providing bidirectional buffering for both the data (SDA) and the clock (SCL) lines, thus enabling two buses of 400 pF. Using the PCA9517A enables the system designer to isolate two halves of a bus for both voltage and capacitance. The SDA and SCL pins are overvoltage tolerant and are high-impedance when the PCA9517A is unpowered. The 2.7 V to 5.5 V bus port B drivers behave much like the drivers on the PCA9515A device, while the adjustable voltage bus port A drivers drive more current and eliminate the static offset voltage. This results in a LOW on the port B translating into a nearly 0 V LOW on the port A which accommodates smaller voltage swings of lower voltage logic. The static offset design of the port B PCA9517A I/O drivers prevent them from being connected to another device that has rise time accelerator including the PCA9510, PCA9511, PCA9512, PCA9513, PCA9514, PCA9515A, PCA9516A, PCA9517A (port B), or PCA9518. Port A of two or more PCA9517As can be connected together, however, to allow a star topography with port A on the common bus, and port A can be connected directly to any other buffer with static or dynamic offset voltage. Multiple PCA9517As can be connected in series, port A to port B, with no build-up in offset voltage with only time of flight delays to consider. The PCA9517A drivers are not enabled unless VCC(A) is above 0.8 V and VCC(B) is above 2.5 V. The EN pin can also be used to turn the drivers on and off under system control. Caution should be observed to only change the state of the enable pin when the bus is idle. The output pull-down on the port B internal buffer LOW is set for approximately 0.5 V, while the input threshold of the internal buffer is set about 70 mV lower (0.43 V). When the port B I/O is driven LOW internally, the LOW is not recognized as a LOW by the input. This prevents a lock-up condition from occurring. The output pull-down on port A drives a hard LOW and the input level is set at 0.3VCC(A) to accommodate the need for a lower LOW level in systems where the low voltage side supply voltage is as low as 0.9 V.    AAL Eindhoven MK
footprint SOT96-1
pins: 1 VCC(A) (power), 2 SCLA, 3 SDAA, 4 GND (power), 5 EN, 6 SDAB, 7 SCLB, 8 VCC(B) (power)

## PCA9517ADP
designator U?, comment Level translating I2C-bus repeater The PCA9517A is a CMOS integrated circuit that provides level shifting between low voltage (down to 0.9 V) and higher voltage (2.7 V to 5.5 V) I2C-bus or SMBus applications. While retaining all the operating modes and features of the I2C-bus system during the level shifts, it also permits extension of the I2C-bus by providing bidirectional buffering for both the data (SDA) and the clock (SCL) lines, thus enabling two buses of 400 pF. Using the PCA9517A enables the system designer to isolate two halves of a bus for both voltage and capacitance. The SDA and SCL pins are overvoltage tolerant and are high-impedance when the PCA9517A is unpowered. The 2.7 V to 5.5 V bus port B drivers behave much like the drivers on the PCA9515A device, while the adjustable voltage bus port A drivers drive more current and eliminate the static offset voltage. This results in a LOW on the port B translating into a nearly 0 V LOW on the port A which accommodates smaller voltage swings of lower voltage logic. The static offset design of the port B PCA9517A I/O drivers prevent them from being connected to another device that has rise time accelerator including the PCA9510, PCA9511, PCA9512, PCA9513, PCA9514, PCA9515A, PCA9516A, PCA9517A (port B), or PCA9518. Port A of two or more PCA9517As can be connected together, however, to allow a star topography with port A on the common bus, and port A can be connected directly to any other buffer with static or dynamic offset voltage. Multiple PCA9517As can be connected in series, port A to port B, with no build-up in offset voltage with only time of flight delays to consider. The PCA9517A drivers are not enabled unless VCC(A) is above 0.8 V and VCC(B) is above 2.5 V. The EN pin can also be used to turn the drivers on and off under system control. Caution should be observed to only change the state of the enable pin when the bus is idle. The output pull-down on the port B internal buffer LOW is set for approximately 0.5 V, while the input threshold of the internal buffer is set about 70 mV lower (0.43 V). When the port B I/O is driven LOW internally, the LOW is not recognized as a LOW by the input. This prevents a lock-up condition from occurring. The output pull-down on port A drives a hard LOW and the input level is set at 0.3VCC(A) to accommodate the need for a lower LOW level in systems where the low voltage side supply voltage is as low as 0.9 V.    AAL Eindhoven MK
footprint SOT505-1
pins: 1 VCC(A) (power), 2 SCLA, 3 SDAA, 4 GND (power), 5 EN, 6 SDAB, 7 SCLB, 8 VCC(B) (power)

## PCA9517ATP
designator U?, comment Level translating I2C-bus repeater The PCA9517A is a CMOS integrated circuit that provides level shifting between low voltage (down to 0.9 V) and higher voltage (2.7 V to 5.5 V) I2C-bus or SMBus applications. While retaining all the operating modes and features of the I2C-bus system during the level shifts, it also permits extension of the I2C-bus by providing bidirectional buffering for both the data (SDA) and the clock (SCL) lines, thus enabling two buses of 400 pF. Using the PCA9517A enables the system designer to isolate two halves of a bus for both voltage and capacitance. The SDA and SCL pins are overvoltage tolerant and are high-impedance when the PCA9517A is unpowered. The 2.7 V to 5.5 V bus port B drivers behave much like the drivers on the PCA9515A device, while the adjustable voltage bus port A drivers drive more current and eliminate the static offset voltage. This results in a LOW on the port B translating into a nearly 0 V LOW on the port A which accommodates smaller voltage swings of lower voltage logic. The static offset design of the port B PCA9517A I/O drivers prevent them from being connected to another device that has rise time accelerator including the PCA9510, PCA9511, PCA9512, PCA9513, PCA9514, PCA9515A, PCA9516A, PCA9517A (port B), or PCA9518. Port A of two or more PCA9517As can be connected together, however, to allow a star topography with port A on the common bus, and port A can be connected directly to any other buffer with static or dynamic offset voltage. Multiple PCA9517As can be connected in series, port A to port B, with no build-up in offset voltage with only time of flight delays to consider. The PCA9517A drivers are not enabled unless VCC(A) is above 0.8 V and VCC(B) is above 2.5 V. The EN pin can also be used to turn the drivers on and off under system control. Caution should be observed to only change the state of the enable pin when the bus is idle. The output pull-down on the port B internal buffer LOW is set for approximately 0.5 V, while the input threshold of the internal buffer is set about 70 mV lower (0.43 V). When the port B I/O is driven LOW internally, the LOW is not recognized as a LOW by the input. This prevents a lock-up condition from occurring. The output pull-down on port A drives a hard LOW and the input level is set at 0.3VCC(A) to accommodate the need for a lower LOW level in systems where the low voltage side supply voltage is as low as 0.9 V.    AAL Eindhoven MK
footprint SOT1069-2
pins: 1 SDAA, 2 GND (power), 3 EN, 4 SDAB, 5 SCLB, 6 VCC(B) (power), 7 VCC(A) (power), 8 SCLA

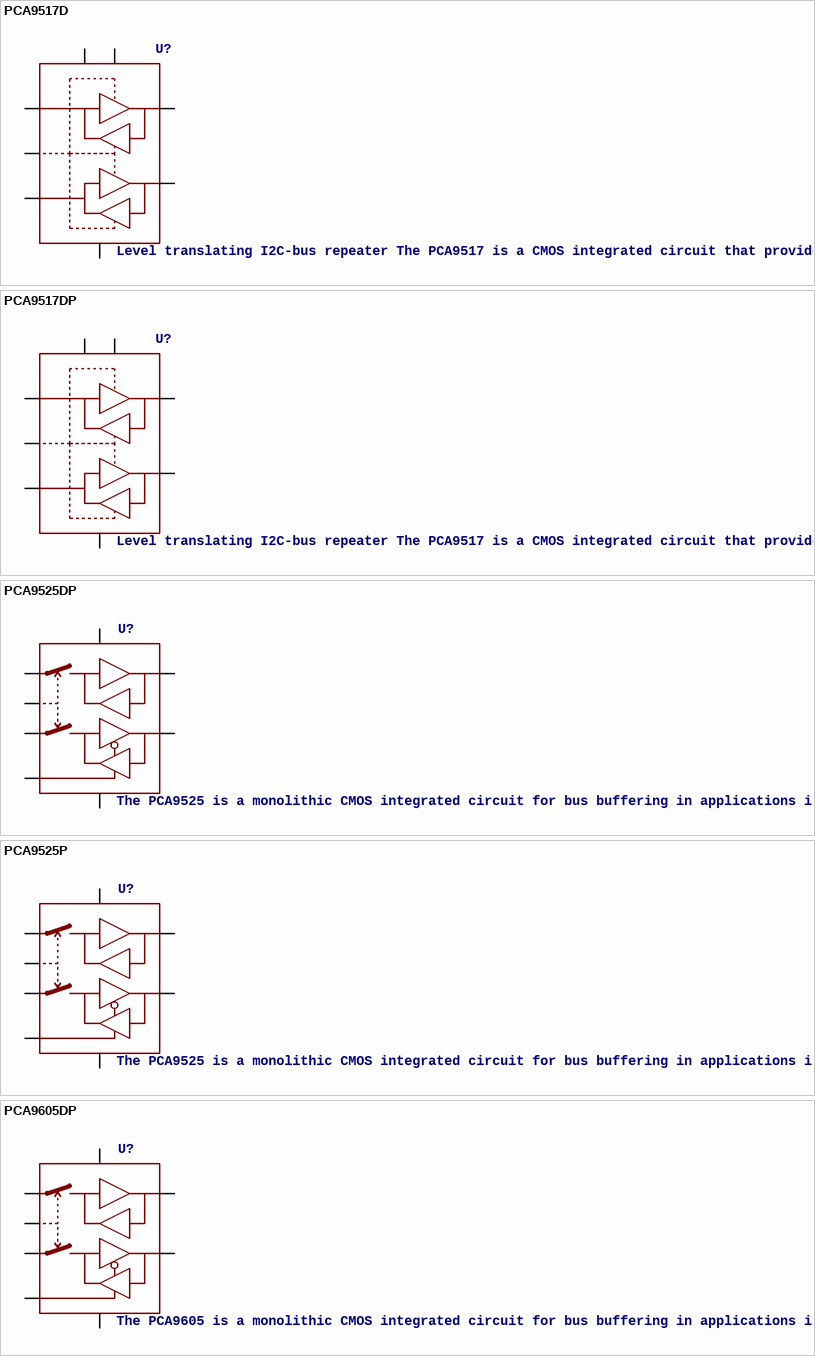
[diagram p159: symbols PCA9517D to PCA9605DP]

## PCA9517D
designator U?, comment Level translating I2C-bus repeater The PCA9517 is a CMOS integrated circuit that provides level shifting between low voltage (down to 0.9 V) and higher voltage (2.7 V to 5.5 V) I2C-bus or SMBus applications. While retaining all the operating modes and features of the I2C-bus system during the level shifts, it also permits extension of the I2C-bus by providing bidirectional buffering for both the data (SDA) and the clock (SCL) lines, thus enabling two buses of 400 pF. Using the PCA9517 enables the system designer to isolate two halves of a bus for both voltage and capacitance. The SDA and SCL pins are over voltage tolerant and are high-impedance when the PCA9517 is unpowered. The 2.7 V to 5.5 V bus B-side drivers behave much like the drivers on the PCA9515A device, while the adjustable voltage bus A-side drivers drive more current and eliminate the static offset voltage. This results in a LOW on the B-side translating into a nearly 0 V LOW on the A-side which accommodates smaller voltage swings of lower voltage logic. The static offset design of the B-side PCA9517 I/O drivers prevent them from being connected to another device that has rise time accelerator including the PCA9510, PCA9511, PCA9512, PCA9513, PCA9514, PCA9515A, PCA9516A, PCA9517 (B-side), or PCA9518. The A-side of two or more PCA9517s can be connected together, however, to allow a star topography with the A-side on the common bus, and the A-side can be connected directly to any other buffer with static or dynamic offset voltage. Multiple PCA9517s can be connected in series, A-side to B-side, with no build-up in offset voltage with only time of ﬂight delays to consider. The PCA9517 drivers are not enabled unless VCCA is above 0.8 V and VCC is above 2.5 V. The EN pin can also be used to turn the drivers on and off under system control. Caution should be observed to only change the state of the enable pin when the bus is idle. The output pull-down on the B-side internal buffer LOW is set for approximately 0.5 V, while the input threshold of the internal buffer is set about 70 mV lower (0.43 V). When the B-side I/O is driven LOW internally, the LOW is not recognized as a LOW by the input. This prevents a lock-up condition from occurring. The output pull-down on the A-side drives a hard LOW and the input level is set at 0.3VCCA to accommodate the need for a lower LOW level in systems where the low voltage side supply voltage is as low as 0.9 V.    AAL Eindhoven MK
footprint SOT96-1
pins: 1 VCC(A) (power), 2 SCLA, 3 SDAA, 4 GND (power), 5 EN, 6 SDAB, 7 SCLB, 8 VCC(B) (power)

## PCA9517DP
designator U?, comment Level translating I2C-bus repeater The PCA9517 is a CMOS integrated circuit that provides level shifting between low voltage (down to 0.9 V) and higher voltage (2.7 V to 5.5 V) I2C-bus or SMBus applications. While retaining all the operating modes and features of the I2C-bus system during the level shifts, it also permits extension of the I2C-bus by providing bidirectional buffering for both the data (SDA) and the clock (SCL) lines, thus enabling two buses of 400 pF. Using the PCA9517 enables the system designer to isolate two halves of a bus for both voltage and capacitance. The SDA and SCL pins are over voltage tolerant and are high-impedance when the PCA9517 is unpowered. The 2.7 V to 5.5 V bus B-side drivers behave much like the drivers on the PCA9515A device, while the adjustable voltage bus A-side drivers drive more current and eliminate the static offset voltage. This results in a LOW on the B-side translating into a nearly 0 V LOW on the A-side which accommodates smaller voltage swings of lower voltage logic. The static offset design of the B-side PCA9517 I/O drivers prevent them from being connected to another device that has rise time accelerator including the PCA9510, PCA9511, PCA9512, PCA9513, PCA9514, PCA9515A, PCA9516A, PCA9517 (B-side), or PCA9518. The A-side of two or more PCA9517s can be connected together, however, to allow a star topography with the A-side on the common bus, and the A-side can be connected directly to any other buffer with static or dynamic offset voltage. Multiple PCA9517s can be connected in series, A-side to B-side, with no build-up in offset voltage with only time of ﬂight delays to consider. The PCA9517 drivers are not enabled unless VCCA is above 0.8 V and VCC is above 2.5 V. The EN pin can also be used to turn the drivers on and off under system control. Caution should be observed to only change the state of the enable pin when the bus is idle. The output pull-down on the B-side internal buffer LOW is set for approximately 0.5 V, while the input threshold of the internal buffer is set about 70 mV lower (0.43 V). When the B-side I/O is driven LOW internally, the LOW is not recognized as a LOW by the input. This prevents a lock-up condition from occurring. The output pull-down on the A-side drives a hard LOW and the input level is set at 0.3VCCA to accommodate the need for a lower LOW level in systems where the low voltage side supply voltage is as low as 0.9 V.    AAL Eindhoven MK
footprint SOT505-1
pins: 1 VCC(A) (power), 2 SCLA, 3 SDAA, 4 GND (power), 5 EN, 6 SDAB, 7 SCLB, 8 VCC(B) (power)

## PCA9525DP
designator U?, comment The PCA9525 is a monolithic CMOS integrated circuit for bus buffering in applications including I2C-bus, SMBus, DDC, PMBus, and other systems based on similar principles.   AAL Eindhoven MK
footprint SOT505-1
pins: 1 EN, 2 SCL, 3 SCLI, 4 VDD (power), 5 DIR, 6 SDAI, 7 SDA, 8 VSS (power)

## PCA9525P
designator U?, comment The PCA9525 is a monolithic CMOS integrated circuit for bus buffering in applications including I2C-bus, SMBus, DDC, PMBus, and other systems based on similar principles.   AAL Eindhoven MK
footprint SOT96-1
pins: 1 EN, 2 SCL, 3 SCLI, 4 VDD (power), 5 DIR, 6 SDAI, 7 SDA, 8 VSS (power)

## PCA9605DP
designator U?, comment The PCA9605 is a monolithic CMOS integrated circuit for bus buffering in applications including I2C-bus, SMBus, DDC, PMBus, and other systems based on similar principles.   AAL Eindhoven MK
footprint SOT505-1
pins: 1 EN, 2 SCL, 3 SCLI, 4 VSS (power), 5 DIR, 6 SDAI, 7 SDA, 8 VDD (power)

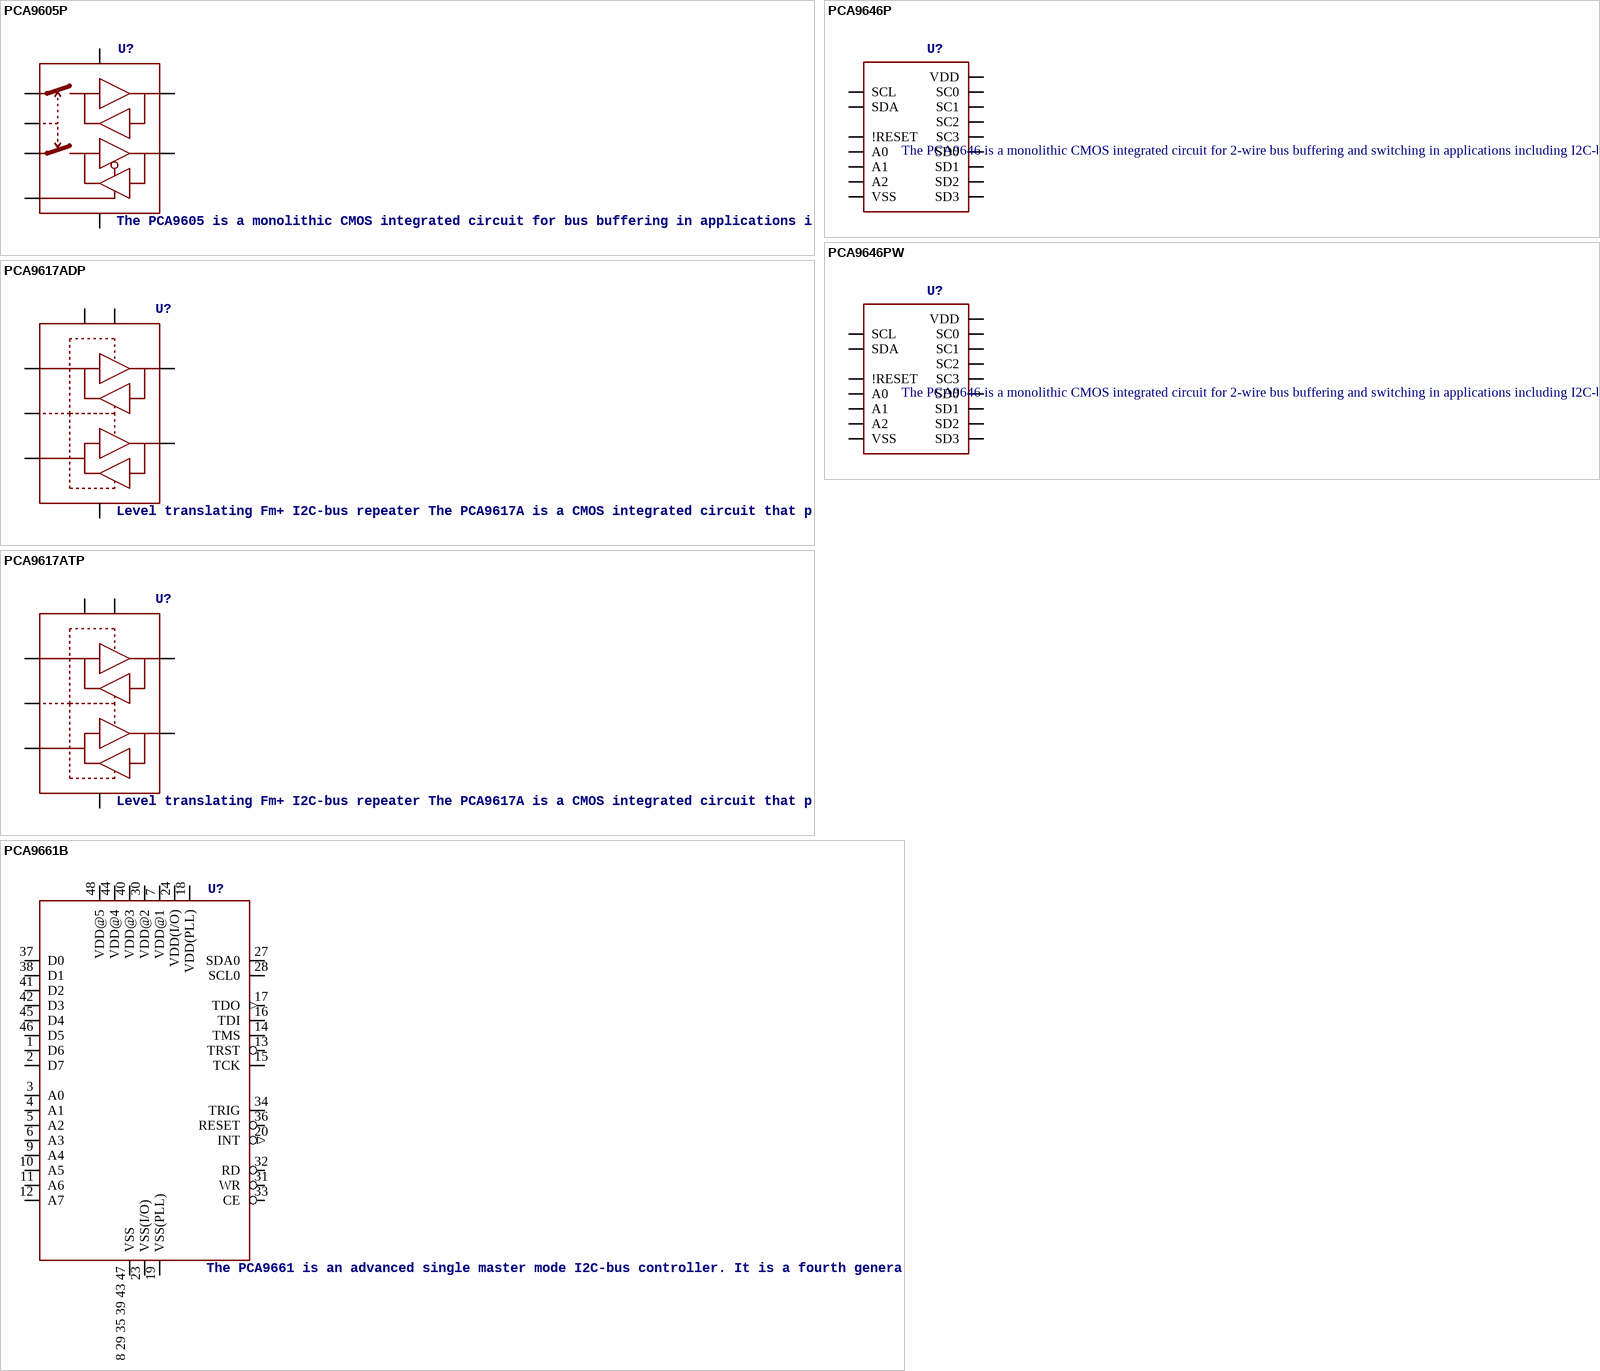
[diagram p160: symbols PCA9605P to PCA9661B]

## PCA9605P
designator U?, comment The PCA9605 is a monolithic CMOS integrated circuit for bus buffering in applications including I2C-bus, SMBus, DDC, PMBus, and other systems based on similar principles.   AAL Eindhoven MK
footprint SOT96-1
pins: 1 EN, 2 SCL, 3 SCLI, 4 VSS (power), 5 DIR, 6 SDAI, 7 SDA, 8 VDD (power)